# Altium footprint library Package_TO_SOT_THT.PcbLib: 236 footprints (part 4 of 15)
Each footprint in its own frame and in the unit in brackets; x right, y up, seen from the top. Pads: shape width x height; smd on the part's side, far side on the other; paste and mask are expansions set on the pad; w line width, h text height; cw(c..) or ccw(c..) is an arc to the next point about the centre after c.
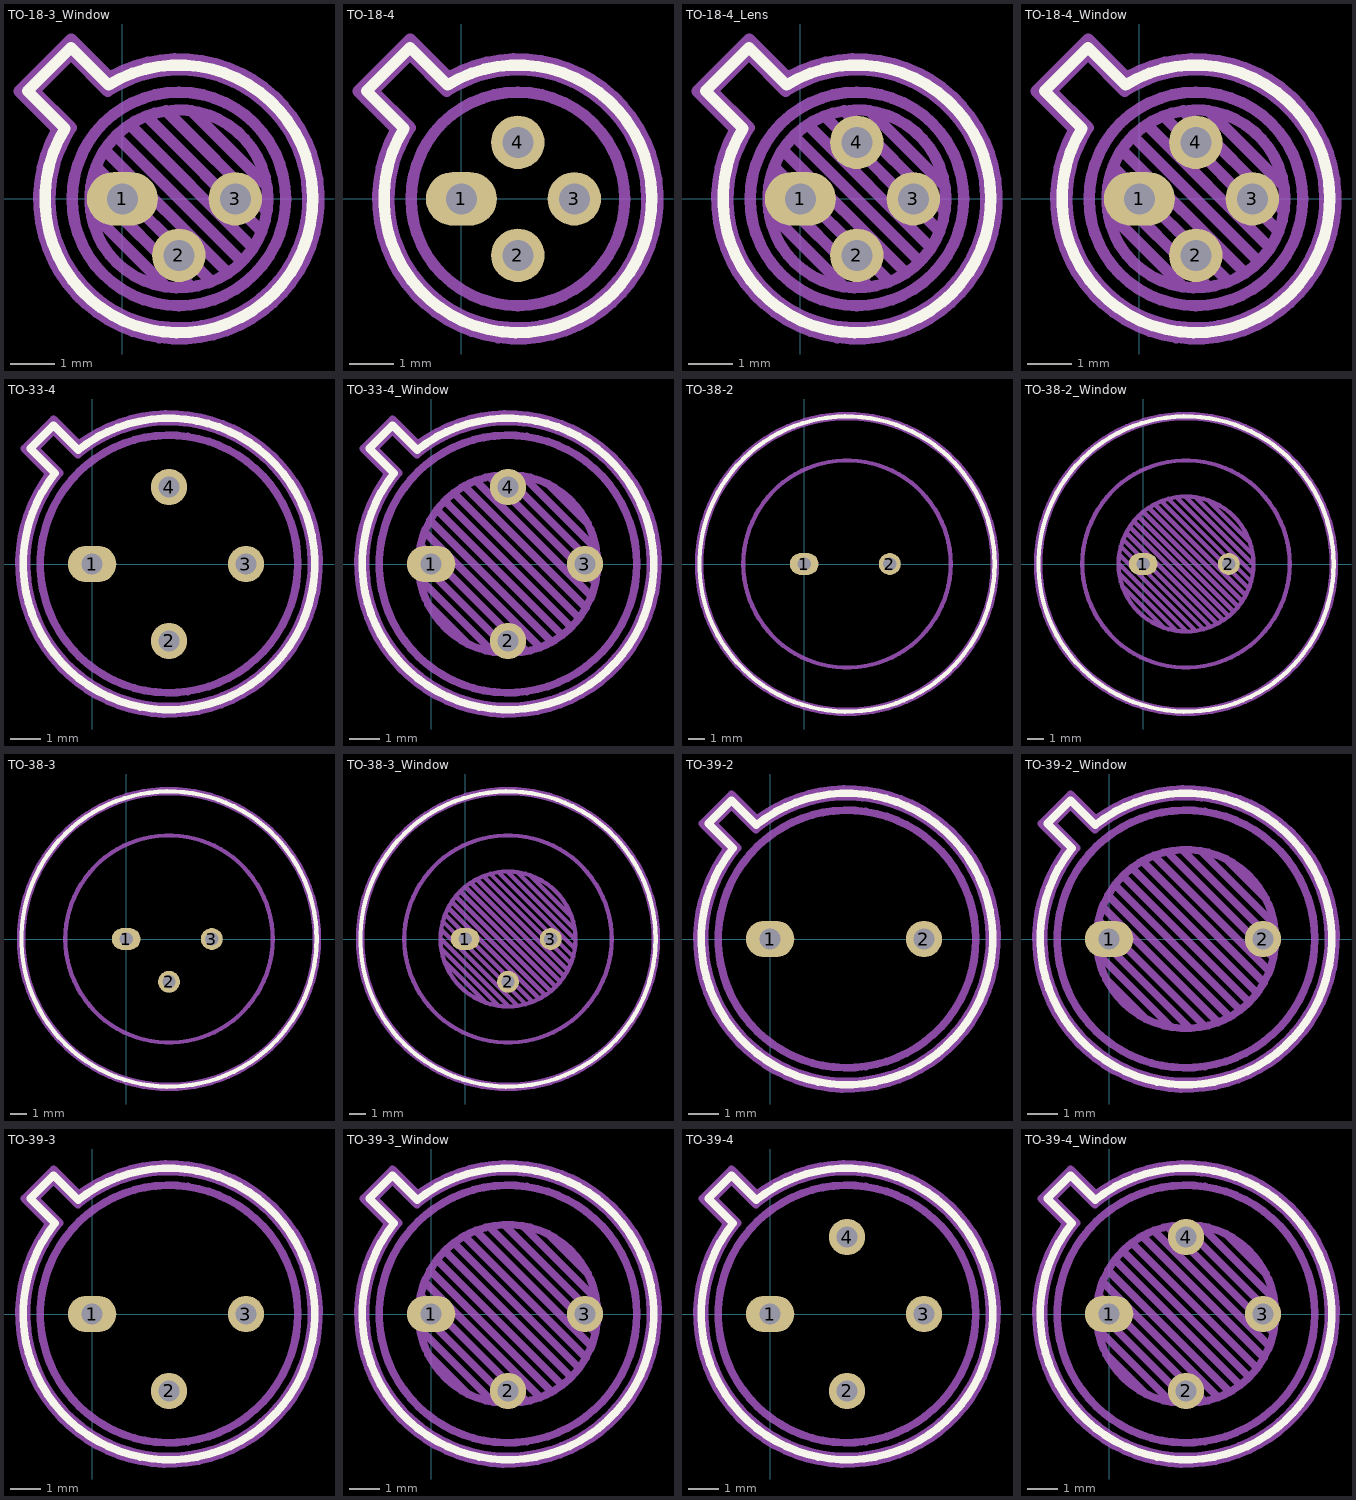
[diagram p3: the footprints below, top view; thin cyan lines are the x and y axes]

## TO-18-3_Window [mm]
pads (3):
  rrect100% 1.6x1.2 hole 0.7: 1(0,0)
  round 1.2 hole 0.7: 2(1.27,-1.27) 3(2.54,0)
F.SilkS:
  lines w0.254: -2.13,2.424 -1.154,3.4 -0.314,2.56 cw(c1.27,0) -1.29,1.584 -2.13,2.424
F.Fab:
  circle w0.254: c1.27,0 r2.4
  circle w0.254: c1.27,0 r2
  lines w0.254: -0.71,-0.283 0.987,-1.98 ; -0.71,0.283 1.553,-1.98 ; -0.592,0.731 2.001,-1.862 ; -0.399,1.103 2.373,-1.669 ; -0.145,1.415 2.685,-1.415 ; 0.167,1.669 2.939,-1.103 ; 0.539,1.862 3.132,-0.731 ; 0.987,1.98 3.25,-0.283 ; 1.553,1.98 3.25,0.283 ; -1.977,2.426 -1.156,3.247 -0.329,2.419 cw(c1.27,0) -1.149,1.599 -1.977,2.426
  text "'.Designator'" at -2.777,3.17 h1
F.CrtYd:
  lines w0.254: -2.324,2.42 -1.15,3.594 -0.292,2.736 cw(c1.27,0) -1.466,1.562 -2.324,2.42

## TO-18-4 [mm]
pads (4):
  rrect100% 1.6x1.2 hole 0.7: 1(0,0)
  round 1.2 hole 0.7: 2(1.27,-1.27) 3(2.54,0) 4(1.27,1.27)
F.SilkS:
  lines w0.254: -2.13,2.424 -1.154,3.4 -0.314,2.56 cw(c1.27,0) -1.29,1.584 -2.13,2.424
F.Fab:
  circle w0.254: c1.27,0 r2.4
  lines w0.254: -1.977,2.426 -1.156,3.247 -0.329,2.419 cw(c1.27,0) -1.149,1.599 -1.977,2.426
  text "'.Designator'" at -2.777,3.17 h1
F.CrtYd:
  lines w0.254: -2.324,2.42 -1.15,3.594 -0.292,2.736 cw(c1.27,0) -1.466,1.562 -2.324,2.42

## TO-18-4_Lens [mm]
pads (4):
  rrect100% 1.6x1.2 hole 0.7: 1(0,0)
  round 1.2 hole 0.7: 2(1.27,-1.27) 3(2.54,0) 4(1.27,1.27)
F.SilkS:
  lines w0.254: -2.13,2.424 -1.29,1.584 ccw(c1.27,0) -0.314,2.56 -1.154,3.4 -2.13,2.424
F.Fab:
  circle w0.254: c1.27,0 r2
  circle w0.254: c1.27,0 r2.4
  lines w0.254: -0.71,-0.283 0.987,-1.98 ; -0.71,0.283 1.553,-1.98 ; -0.592,0.731 2.001,-1.862 ; -0.399,1.103 2.373,-1.669 ; -0.145,1.415 2.685,-1.415 ; 0.167,1.669 2.939,-1.103 ; 0.539,1.862 3.132,-0.731 ; 0.987,1.98 3.25,-0.283 ; 1.553,1.98 3.25,0.283 ; -1.977,2.426 -1.149,1.599 ccw(c1.27,0) -0.329,2.419 -1.156,3.247 -1.977,2.426
  text "'.Designator'" at -2.777,3.17 h1
F.CrtYd:
  lines w0.254: -2.324,2.42 -1.466,1.562 ccw(c1.27,0) -0.292,2.736 -1.15,3.594 -2.324,2.42

## TO-18-4_Window [mm]
pads (4):
  rrect100% 1.6x1.2 hole 0.7: 1(0,0)
  round 1.2 hole 0.7: 2(1.27,-1.27) 3(2.54,0) 4(1.27,1.27)
F.SilkS:
  lines w0.254: -2.13,2.424 -1.29,1.584 ccw(c1.27,0) -0.314,2.56 -1.154,3.4 -2.13,2.424
F.Fab:
  circle w0.254: c1.27,0 r2
  circle w0.254: c1.27,0 r2.4
  lines w0.254: -0.71,-0.283 0.987,-1.98 ; -0.71,0.283 1.553,-1.98 ; -0.592,0.731 2.001,-1.862 ; -0.399,1.103 2.373,-1.669 ; -0.145,1.415 2.685,-1.415 ; 0.167,1.669 2.939,-1.103 ; 0.539,1.862 3.132,-0.731 ; 0.987,1.98 3.25,-0.283 ; 1.553,1.98 3.25,0.283 ; -1.977,2.426 -1.149,1.599 ccw(c1.27,0) -0.329,2.419 -1.156,3.247 -1.977,2.426
  text "'.Designator'" at -2.777,3.17 h1
F.CrtYd:
  lines w0.254: -2.324,2.42 -1.466,1.562 ccw(c1.27,0) -0.292,2.736 -1.15,3.594 -2.324,2.42

## TO-33-4 [mm]
pads (4):
  rrect100% 1.6x1.2 hole 0.7: 1(0,0)
  round 1.2 hole 0.7: 2(2.54,-2.54) 3(5.08,0) 4(2.54,2.54)
F.SilkS:
  lines w0.254: -2.035,3.811 -1.222,2.998 ccw(c2.54,0) -0.458,3.762 -1.271,4.575 -2.035,3.811
F.Fab:
  circle w0.254: c2.54,0 r4.25
  lines w0.254: -1.88,3.812 -1.074,3.005 ccw(c2.54,0) -0.465,3.614 -1.272,4.42 -1.88,3.812
  text "'.Designator'" at -1.507,4.97 h1
F.CrtYd:
  lines w0.254: -2.231,3.81 -1.408,2.986 ccw(c2.54,0) -0.446,3.948 -1.27,4.771 -2.231,3.81

## TO-33-4_Window [mm]
pads (4):
  rrect100% 1.6x1.2 hole 0.7: 1(0,0)
  round 1.2 hole 0.7: 2(2.54,-2.54) 3(5.08,0) 4(2.54,2.54)
F.SilkS:
  lines w0.254: -2.035,3.811 -1.222,2.998 ccw(c2.54,0) -0.458,3.762 -1.271,4.575 -2.035,3.811
F.Fab:
  circle w0.254: c2.54,0 r2.95
  circle w0.254: c2.54,0 r4.25
  lines w0.254: -0.408,0.12 2.66,-2.948 ; -0.371,-0.485 2.055,-2.911 ; -0.344,0.622 3.162,-2.884 ; -0.215,1.058 3.598,-2.755 ; -0.097,-1.324 1.216,-2.637 ; -0.034,1.443 3.983,-2.574 ; 0.19,1.784 4.324,-2.35 ; 0.454,2.086 4.626,-2.086 ; 0.756,2.35 4.89,-1.784 ; 1.097,2.574 5.114,-1.443 ; 1.482,2.755 5.295,-1.058 ; 1.918,2.884 5.424,-0.622 ; 2.42,2.948 5.488,-0.12 ; 3.025,2.911 5.451,0.485 ; 3.864,2.637 5.177,1.324 ; -1.88,3.812 -1.074,3.005 ccw(c2.54,0) -0.465,3.614 -1.272,4.42 -1.88,3.812
  text "'.Designator'" at -1.507,4.97 h1
F.CrtYd:
  lines w0.254: -2.231,3.81 -1.408,2.986 ccw(c2.54,0) -0.446,3.948 -1.27,4.771 -2.231,3.81

## TO-38-2 [mm]
pads (2):
  rrect100% 1.7x1.3 hole 0.8: 1(0,0)
  round 1.3 hole 0.8: 2(5.08,0)
F.SilkS:
  circle w0.254: c2.54,0 r8.76
F.Fab:
  circle w0.254: c2.54,0 r6.15
  circle w0.254: c2.54,0 r8.65
  text "'.Designator'" at -1.507,8.92 h1
F.CrtYd:
  circle w0.254: c2.54,0 r8.9

## TO-38-2_Window [mm]
pads (2):
  rrect100% 1.7x1.3 hole 0.8: 1(0,0)
  round 1.3 hole 0.8: 2(5.08,0)
F.SilkS:
  circle w0.254: c2.54,0 r8.76
F.Fab:
  circle w0.254: c2.54,0 r4
  circle w0.254: c2.54,0 r6.15
  circle w0.254: c2.54,0 r8.65
  lines w0.254: -1.46,0.041 2.581,-4 ; -1.42,-0.566 1.974,-3.96 ; -1.42,0.566 3.106,-3.96 ; -1.324,1.036 3.576,-3.864 ; -1.239,-1.313 1.227,-3.779 ; -1.184,1.461 4.001,-3.724 ; -1.007,1.85 4.39,-3.547 ; -0.797,2.206 4.746,-3.337 ; -0.558,2.532 5.072,-3.098 ; -0.289,2.829 5.369,-2.829 ; 0.008,3.098 5.638,-2.532 ; 0.334,3.337 5.877,-2.206 ; 0.69,3.547 6.087,-1.85 ; 1.079,3.724 6.264,-1.461 ; 1.504,3.864 6.404,-1.036 ; 1.974,3.96 6.5,-0.566 ; 2.499,4 6.54,-0.041 ; 3.106,3.96 6.5,0.566 ; 3.853,3.779 6.319,1.313
  text "'.Designator'" at -1.507,8.92 h1
F.CrtYd:
  circle w0.254: c2.54,0 r8.9

## TO-38-3 [mm]
pads (3):
  rrect100% 1.7x1.3 hole 0.8: 1(0,0)
  round 1.3 hole 0.8: 2(2.54,-2.54) 3(5.08,0)
F.SilkS:
  circle w0.254: c2.54,0 r8.76
F.Fab:
  circle w0.254: c2.54,0 r6.15
  circle w0.254: c2.54,0 r8.65
  text "'.Designator'" at -1.507,8.92 h1
F.CrtYd:
  circle w0.254: c2.54,0 r8.9

## TO-38-3_Window [mm]
pads (3):
  rrect100% 1.7x1.3 hole 0.8: 1(0,0)
  round 1.3 hole 0.8: 2(2.54,-2.54) 3(5.08,0)
F.SilkS:
  circle w0.254: c2.54,0 r8.76
F.Fab:
  circle w0.254: c2.54,0 r8.65
  circle w0.254: c2.54,0 r6.15
  circle w0.254: c2.54,0 r4
  lines w0.254: -1.46,0.041 2.581,-4 ; -1.42,-0.566 1.974,-3.96 ; -1.42,0.566 3.106,-3.96 ; -1.324,1.036 3.576,-3.864 ; -1.239,-1.313 1.227,-3.779 ; -1.184,1.461 4.001,-3.724 ; -1.007,1.85 4.39,-3.547 ; -0.797,2.206 4.746,-3.337 ; -0.558,2.532 5.072,-3.098 ; -0.289,2.829 5.369,-2.829 ; 0.008,3.098 5.638,-2.532 ; 0.334,3.337 5.877,-2.206 ; 0.69,3.547 6.087,-1.85 ; 1.079,3.724 6.264,-1.461 ; 1.504,3.864 6.404,-1.036 ; 1.974,3.96 6.5,-0.566 ; 2.499,4 6.54,-0.041 ; 3.106,3.96 6.5,0.566 ; 3.853,3.779 6.319,1.313
  text "'.Designator'" at -1.507,8.92 h1
F.CrtYd:
  circle w0.254: c2.54,0 r8.9

## TO-39-2 [mm]
pads (2):
  rrect100% 1.6x1.2 hole 0.7: 1(0,0)
  round 1.2 hole 0.7: 2(5.08,0)
F.SilkS:
  lines w0.254: -2.035,3.811 -1.222,2.998 ccw(c2.54,0) -0.458,3.762 -1.271,4.575 -2.035,3.811
F.Fab:
  circle w0.254: c2.54,0 r4.25
  lines w0.254: -1.88,3.812 -1.074,3.005 ccw(c2.54,0) -0.465,3.614 -1.272,4.42 -1.88,3.812
  text "'.Designator'" at -1.507,4.97 h1
F.CrtYd:
  lines w0.254: -2.231,3.81 -1.408,2.986 ccw(c2.54,0) -0.446,3.948 -1.27,4.771 -2.231,3.81
3D body "TO-39-2.step": height 7.5, standoff -9, extent -2.16,-4.697 7.24,4.697

## TO-39-2_Window [mm]
pads (2):
  rrect100% 1.6x1.2 hole 0.7: 1(0,0)
  round 1.2 hole 0.7: 2(5.08,0)
F.SilkS:
  lines w0.254: -2.035,3.811 -1.222,2.998 ccw(c2.54,0) -0.458,3.762 -1.271,4.575 -2.035,3.811
F.Fab:
  circle w0.254: c2.54,0 r2.95
  circle w0.254: c2.54,0 r4.25
  lines w0.254: -0.408,0.12 2.66,-2.948 ; -0.371,-0.485 2.055,-2.911 ; -0.344,0.622 3.162,-2.884 ; -0.215,1.058 3.598,-2.755 ; -0.097,-1.324 1.216,-2.637 ; -0.034,1.443 3.983,-2.574 ; 0.19,1.784 4.324,-2.35 ; 0.454,2.086 4.626,-2.086 ; 0.756,2.35 4.89,-1.784 ; 1.097,2.574 5.114,-1.443 ; 1.482,2.755 5.295,-1.058 ; 1.918,2.884 5.424,-0.622 ; 2.42,2.948 5.488,-0.12 ; 3.025,2.911 5.451,0.485 ; 3.864,2.637 5.177,1.324 ; -1.88,3.812 -1.074,3.005 ccw(c2.54,0) -0.465,3.614 -1.272,4.42 -1.88,3.812
  text "'.Designator'" at -1.507,4.97 h1
F.CrtYd:
  lines w0.254: -2.231,3.81 -1.408,2.986 ccw(c2.54,0) -0.446,3.948 -1.27,4.771 -2.231,3.81
3D body "TO-39-2_Window.step": height 7.5, standoff -9, extent -2.16,-4.697 7.24,4.697

## TO-39-3 [mm]
pads (3):
  rrect100% 1.6x1.2 hole 0.7: 1(0,0)
  round 1.2 hole 0.7: 2(2.54,-2.54) 3(5.08,0)
F.SilkS:
  lines w0.254: -2.035,3.811 -1.271,4.575 -0.458,3.762 cw(c2.54,0) -1.222,2.998 -2.035,3.811
F.Fab:
  circle w0.254: c2.54,0 r4.25
  lines w0.254: -1.88,3.812 -1.272,4.42 -0.465,3.614 cw(c2.54,0) -1.074,3.005 -1.88,3.812
  text "'.Designator'" at -1.507,4.97 h1
F.CrtYd:
  lines w0.254: -2.231,3.81 -1.27,4.771 -0.446,3.948 cw(c2.54,0) -1.408,2.986 -2.231,3.81
3D body "TO-39-3.step": height 7.5, standoff -9, extent -2.16,-4.697 7.24,4.697

## TO-39-3_Window [mm]
pads (3):
  rrect100% 1.6x1.2 hole 0.7: 1(0,0)
  round 1.2 hole 0.7: 2(2.54,-2.54) 3(5.08,0)
F.SilkS:
  lines w0.254: -2.035,3.811 -1.222,2.998 ccw(c2.54,0) -0.458,3.762 -1.271,4.575 -2.035,3.811
F.Fab:
  circle w0.254: c2.54,0 r2.95
  circle w0.254: c2.54,0 r4.25
  lines w0.254: -0.408,0.12 2.66,-2.948 ; -0.371,-0.485 2.055,-2.911 ; -0.344,0.622 3.162,-2.884 ; -0.215,1.058 3.598,-2.755 ; -0.097,-1.324 1.216,-2.637 ; -0.034,1.443 3.983,-2.574 ; 0.19,1.784 4.324,-2.35 ; 0.454,2.086 4.626,-2.086 ; 0.756,2.35 4.89,-1.784 ; 1.097,2.574 5.114,-1.443 ; 1.482,2.755 5.295,-1.058 ; 1.918,2.884 5.424,-0.622 ; 2.42,2.948 5.488,-0.12 ; 3.025,2.911 5.451,0.485 ; 3.864,2.637 5.177,1.324 ; -1.88,3.812 -1.074,3.005 ccw(c2.54,0) -0.465,3.614 -1.272,4.42 -1.88,3.812
  text "'.Designator'" at -1.507,4.97 h1
F.CrtYd:
  lines w0.254: -2.231,3.81 -1.408,2.986 ccw(c2.54,0) -0.446,3.948 -1.27,4.771 -2.231,3.81
3D body "TO-39-3_Window.step": height 7.5, standoff -9, extent -2.16,-4.697 7.24,4.697

## TO-39-4 [mm]
pads (4):
  rrect100% 1.6x1.2 hole 0.7: 1(0,0)
  round 1.2 hole 0.7: 2(2.54,-2.54) 3(5.08,0) 4(2.54,2.54)
F.SilkS:
  lines w0.254: -2.035,3.811 -1.271,4.575 -0.458,3.762 cw(c2.54,0) -1.222,2.998 -2.035,3.811
F.Fab:
  circle w0.254: c2.54,0 r4.25
  lines w0.254: -1.88,3.812 -1.272,4.42 -0.465,3.614 cw(c2.54,0) -1.074,3.005 -1.88,3.812
  text "'.Designator'" at -1.507,4.97 h1
F.CrtYd:
  lines w0.254: -2.231,3.81 -1.27,4.771 -0.446,3.948 cw(c2.54,0) -1.408,2.986 -2.231,3.81

## TO-39-4_Window [mm]
pads (4):
  rrect100% 1.6x1.2 hole 0.7: 1(0,0)
  round 1.2 hole 0.7: 2(2.54,-2.54) 3(5.08,0) 4(2.54,2.54)
F.SilkS:
  lines w0.254: -2.035,3.811 -1.222,2.998 ccw(c2.54,0) -0.458,3.762 -1.271,4.575 -2.035,3.811
F.Fab:
  circle w0.254: c2.54,0 r2.95
  circle w0.254: c2.54,0 r4.25
  lines w0.254: -0.408,0.12 2.66,-2.948 ; -0.371,-0.485 2.055,-2.911 ; -0.344,0.622 3.162,-2.884 ; -0.215,1.058 3.598,-2.755 ; -0.097,-1.324 1.216,-2.637 ; -0.034,1.443 3.983,-2.574 ; 0.19,1.784 4.324,-2.35 ; 0.454,2.086 4.626,-2.086 ; 0.756,2.35 4.89,-1.784 ; 1.097,2.574 5.114,-1.443 ; 1.482,2.755 5.295,-1.058 ; 1.918,2.884 5.424,-0.622 ; 2.42,2.948 5.488,-0.12 ; 3.025,2.911 5.451,0.485 ; 3.864,2.637 5.177,1.324 ; -1.88,3.812 -1.074,3.005 ccw(c2.54,0) -0.465,3.614 -1.272,4.42 -1.88,3.812
  text "'.Designator'" at -1.507,4.97 h1
F.CrtYd:
  lines w0.254: -2.231,3.81 -1.408,2.986 ccw(c2.54,0) -0.446,3.948 -1.27,4.771 -2.231,3.81